# EAGLE library part MODULARCONNECTOR (library Main_lib)
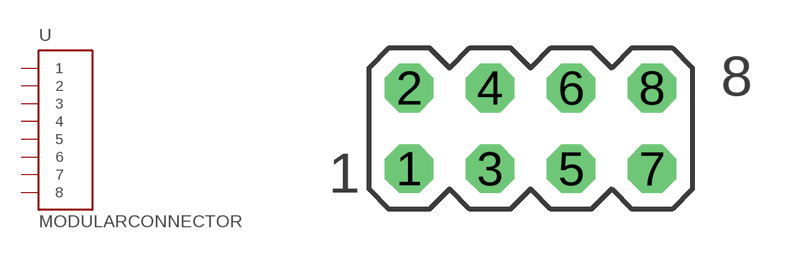
[diagram p2: symbol with the pads of MA04-2; footprint MA04-2]

Designator prefix -

## MODULARCONNECTOR  [MA04-2]
1  1  in
2  2  in
3  3  in
4  4  in
5  5  in
6  6  in
7  7  in
8  8  in

## Footprint MA04-2 (pad centres in mm)
PIN HEADER
drill 1.016 octagon: 1 -3.81,-1.27; 2 -3.81,1.27; 3 -1.27,-1.27; 4 -1.27,1.27; 5 1.27,-1.27; 6 1.27,1.27; 7 3.81,-1.27; 8 3.81,1.27